# Altium footprint library Molex44432-1801.PcbLib: 1 footprints
Each footprint in its own frame and in the unit in brackets; x right, y up, seen from the top. Pads: shape width x height; smd on the part's side, far side on the other; paste and mask are expansions set on the pad; w line width, h text height; cw(c..) or ccw(c..) is an arc to the next point about the centre after c.
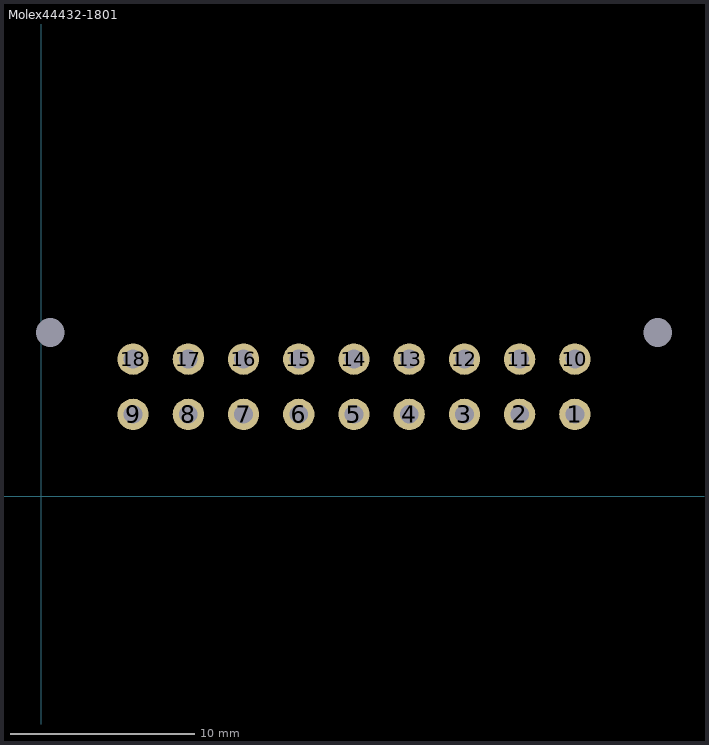
[diagram p0: the footprint, top view; thin cyan lines are the x and y axes]

## Molex44432-1801 [mm]
pads (20):
  round 1.7 hole 1.02: 1(29.001,4.445) 2(26.001,4.445) 3(23.001,4.445) 4(20.001,4.445) 5(17.001,4.445) 6(14.001,4.445) 7(11.001,4.445) 8(8.001,4.445) 9(5.001,4.445) 10(29.001,7.445) 11(26.001,7.445) 12(23.001,7.445) 13(20.001,7.445) 14(17.001,7.445) 15(14.001,7.445) 16(11.001,7.445) 17(8.001,7.445) 18(5.001,7.445)
  round 1 hole 1.57 unplated: ""(0.501,8.895) ""(33.503,8.89)
3D body "444321801.stp": height 11.8, standoff -3.06, extent 0.069,0.025 34.069,11.925